# EAGLE library part TPA3123D2 (library myFab)
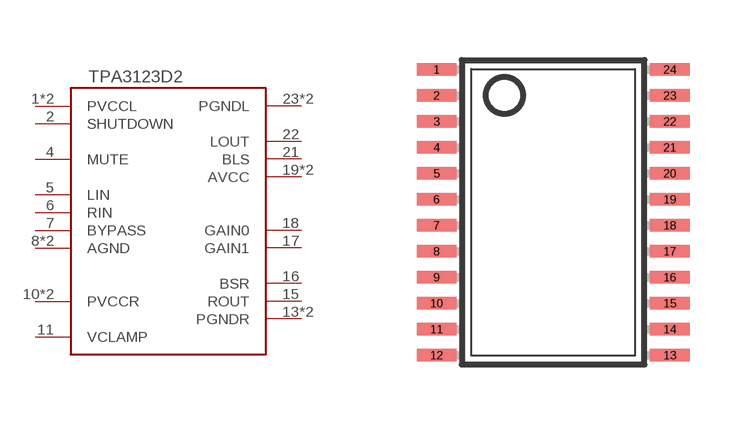
[diagram p23: symbol with the pads of TSSOP24_TPA3123D2; footprint TSSOP24_TPA3123D2]

Designator prefix -

## TPA3123D2  [TSSOP24_TPA3123D2]
1  PVCCL
2  SHUTDOWN
3  PVCCL
4  MUTE
5  LIN
6  RIN
7  BYPASS
8  AGND
9  AGND
10  PVCCR
11  VCLAMP
12  PVCCR
13  PGNDR
14  PGNDR
15  ROUT
16  BSR
17  GAIN1
18  GAIN0
19  AVCC
20  AVCC
21  BLS
22  LOUT
23  PGNDL
24  PGNDL

## Footprint TSSOP24_TPA3123D2 (pad centres in mm)
Thin Shrink Small Outline Plastic 24 MAX3223-MAX3243.pdf
smd 0.991 x 0.305: 1 -2.918,3.575; 2 -2.918,2.925; 3 -2.918,2.275; 4 -2.918,1.625; 5 -2.918,0.975; 6 -2.918,0.325; 7 -2.918,-0.325; 8 -2.918,-0.975; 9 -2.918,-1.625; 10 -2.918,-2.275; 11 -2.918,-2.925; 12 -2.918,-3.575; 13 2.918,-3.575; 14 2.918,-2.925; 15 2.918,-2.275; 16 2.918,-1.625; 17 2.918,-0.975; 18 2.918,-0.325; 19 2.918,0.325; 20 2.918,0.975; 21 2.918,1.625; 22 2.918,2.275; 23 2.918,2.925; 24 2.918,3.575